# Altium footprint library SOIC.PcbLib: 2 footprints
Each footprint in its own frame and in the unit in brackets; x right, y up, seen from the top. Pads: shape width x height; smd on the part's side, far side on the other; paste and mask are expansions set on the pad; w line width, h text height; cw(c..) or ccw(c..) is an arc to the next point about the centre after c.
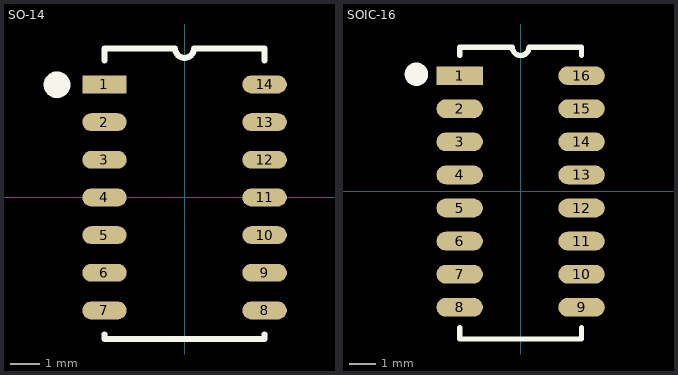
[diagram p0: the footprints below, top view; thin cyan lines are the x and y axes]

## SO-14 [mm]
pads (14):
  rect 1.5x0.6 smd: 1(-2.7,3.81)
  oval 1.5x0.6 smd: 2(-2.7,2.54) 3(-2.7,1.27) 4(-2.7,0) 5(-2.7,-1.27) 6(-2.7,-2.54) 7(-2.7,-3.81) 8(2.7,-3.81) 9(2.7,-2.54) 10(2.7,-1.27) 11(2.7,0) 12(2.7,1.27) 13(2.7,2.54) 14(2.7,3.81)
Top Overlay:
  circle w0.5: c-4.3,3.8 r0.2
  lines w0.2: -2.7,-4.612 -2.7,-4.772 2.7,-4.772 2.7,-4.612 ; -2.7,4.612 -2.7,5.026 -0.318,5.026 ccw(c0,5.026) 0.318,5.026 2.7,5.026 2.7,4.612
3D body "soic-14.stp": height 1.62, standoff 0.02, extent -3.023,-4.318 3.023,4.318

## SOIC-16 [mm]
pads (16):
  rect 1.78x0.72 smd: 1(-2.34,4.445)
  oval 1.78x0.72 smd: 2(-2.34,3.175) 3(-2.34,1.905) 4(-2.34,0.635) 5(-2.34,-0.635) 6(-2.34,-1.905) 7(-2.34,-3.175) 8(-2.34,-4.445) 9(2.34,-4.445) 10(2.34,-3.175) 11(2.34,-1.905) 12(2.34,-0.635) 13(2.34,0.635) 14(2.34,1.905) 15(2.34,3.175) 16(2.34,4.445)
Top Overlay:
  circle w0.5: c-4,4.5 r0.2
  lines w0.2: -2.34,-5.215 -2.34,-5.661 2.34,-5.661 2.34,-5.215 ; -2.34,5.215 -2.34,5.534 -0.318,5.534 ccw(c0,5.534) 0.318,5.534 2.34,5.534 2.34,5.215
3D body "SOIC16.STEP": height 1.5, standoff 0, extent -2.95,-4.95 2.95,4.95